# EAGLE library part 61300621121 (library Wurth_Elektronik2)
WR-PHD 2.54mm Dual Pin Header, 6 Pins =>Code : Con_BTB_PHD_2.54_2_61300621121 <http://katalog.we-online.de/media/images/eican/Con_BTB_PHD_2.54_2_6130xx21121_pf2.jpg> Details see: http://katalog.we-online.de/en/em/613_0xx_211_21 Created 2014-05-29, Karrer Zheng 2014 (C) Würth Elektronik
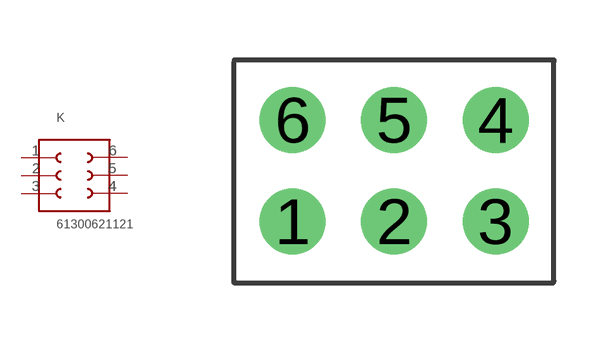
[diagram p18: symbol with the pads of 61300621121; footprint 61300621121]

Designator prefix K

## 61300621121  [61300621121]
1  1  pas
2  2  pas
3  3  pas
4  4  pas
5  5  pas
6  6  pas

## Footprint 61300621121 (pad centres in mm)
WR-PHD 2.54mm Dual Pin Header, 6 Pins
drill 1.1: 1 -2.54,0; 2 0,0; 3 2.54,0; 4 2.54,2.54; 5 0,2.54; 6 -2.54,2.54